# Altium footprint library Mounting_Wuerth.PcbLib: 191 footprints (part 11 of 12)
Each footprint in its own frame and in the unit in brackets; x right, y up, seen from the top. Pads: shape width x height; smd on the part's side, far side on the other; paste and mask are expansions set on the pad; w line width, h text height; cw(c..) or ccw(c..) is an arc to the next point about the centre after c.
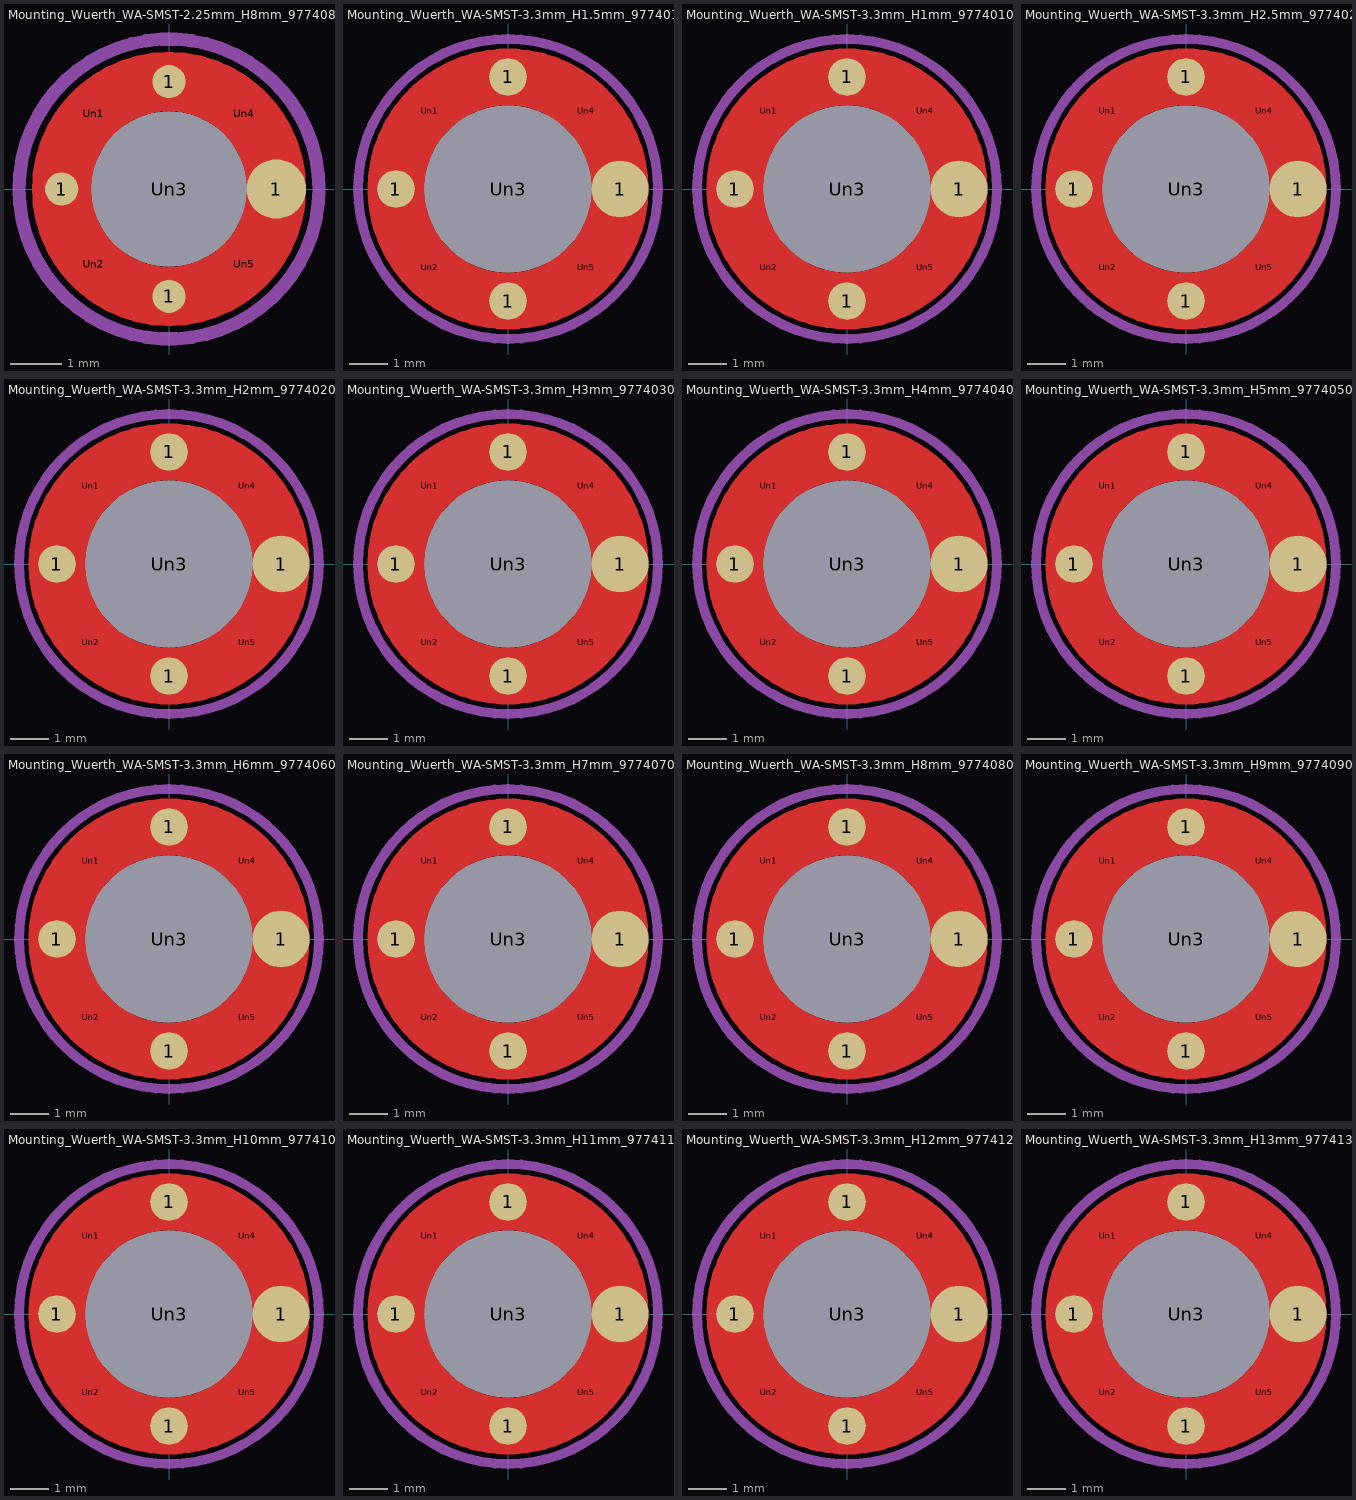
[diagram p10: the footprints below, top view; thin cyan lines are the x and y axes]

## Mounting_Wuerth_WA-SMST-2.25mm_H8mm_9774080943 [mm]
pads (9):
  round 0.642 smd: 1(-2.075,0) 1(0,-2.075) 1(0,2.075)
  round 1.15 smd: 1(2.075,0)
  round 0.505 on Top Paste: Un1(-1.453,1.453) Un2(-1.453,-1.453) Un4(1.453,1.453) Un5(1.453,-1.453)
  round 3 hole 3: Un3(0,0)
F.Cu:
  circle w1.15: c0,0 r2.075
F.Paste:
  lines w0.2: -2.427,-0.4 -1.601,-0.4 ; -2.427,0.4 -1.601,0.4 ; -0.4,-2.427 -0.4,-1.601 ; -0.4,1.601 -0.4,2.427 ; 0.4,-2.427 0.4,-1.601 ; 0.4,1.601 0.4,2.427 ; 1.601,-0.4 2.427,-0.4 ; 1.601,0.4 2.427,0.4
F.Mask:
  circle w1.15: c0,0 r2.075
Top Assembly:
  circle w0.254: c0,0 r2.175
  text "'.Designator'" at -4.047,-0.84 h1
Top Courtyard:
  circle w0.254: c0,0 r2.9
Top Designator:
  text ".Designator" at -7.768,-0.508 h1.52
3D body "Mounting_Wuerth_WA-SMST-2.25mm_H8mm_9774080943.step": height 8, standoff -1.4, extent -2.175,-2.172 2.175,2.172

## Mounting_Wuerth_WA-SMST-3.3mm_H1.5mm_9774015960 [mm]
pads (9):
  round 0.992 smd: 1(-2.95,0) 1(0,-2.95) 1(0,2.95)
  round 1.5 smd: 1(2.95,0)
  round 0.55 on Top Paste: Un1(-2.058,2.058) Un2(-2.058,-2.058) Un4(2.058,2.058) Un5(2.058,-2.058)
  round 4.4 hole 4.4: Un3(0,0)
F.Cu:
  circle w1.5: c0,0 r2.95
F.Paste:
  lines w0.2: -3.342,-0.35 -2.435,-0.35 ; -3.342,0.35 -2.435,0.35 ; -0.35,-3.342 -0.35,-2.435 ; -0.35,2.435 -0.35,3.342 ; 0.35,-3.342 0.35,-2.435 ; 0.35,2.435 0.35,3.342 ; 2.435,-0.35 3.342,-0.35 ; 2.435,0.35 3.342,0.35
F.Mask:
  circle w1.5: c0,0 r2.95
Top Assembly:
  circle w0.254: c0,0 r3
  text "'.Designator'" at -4.047,-0.84 h1
Top Courtyard:
  circle w0.254: c0,0 r3.95
Top Designator:
  text ".Designator" at -7.677,-0.508 h1.52
3D body "Mounting_Wuerth_WA-SMST-3.3mm_H1.5mm_9774015960.step": height 1.5, standoff -1.4, extent -3,-3 3,3

## Mounting_Wuerth_WA-SMST-3.3mm_H1mm_9774010960 [mm]
pads (9):
  round 0.992 smd: 1(-2.95,0) 1(0,-2.95) 1(0,2.95)
  round 1.5 smd: 1(2.95,0)
  round 0.55 on Top Paste: Un1(-2.058,2.058) Un2(-2.058,-2.058) Un4(2.058,2.058) Un5(2.058,-2.058)
  round 4.4 hole 4.4: Un3(0,0)
F.Cu:
  circle w1.5: c0,0 r2.95
F.Paste:
  lines w0.2: -3.342,-0.35 -2.435,-0.35 ; -3.342,0.35 -2.435,0.35 ; -0.35,-3.342 -0.35,-2.435 ; -0.35,2.435 -0.35,3.342 ; 0.35,-3.342 0.35,-2.435 ; 0.35,2.435 0.35,3.342 ; 2.435,-0.35 3.342,-0.35 ; 2.435,0.35 3.342,0.35
F.Mask:
  circle w1.5: c0,0 r2.95
Top Assembly:
  circle w0.254: c0,0 r3
  text "'.Designator'" at -4.047,-0.84 h1
Top Courtyard:
  circle w0.254: c0,0 r3.95
Top Designator:
  text ".Designator" at -7.677,-0.508 h1.52
3D body "Mounting_Wuerth_WA-SMST-3.3mm_H1mm_9774010960.step": height 1, standoff -1.4, extent -3,-3 3,3

## Mounting_Wuerth_WA-SMST-3.3mm_H2.5mm_9774025960 [mm]
pads (9):
  round 0.992 smd: 1(-2.95,0) 1(0,-2.95) 1(0,2.95)
  round 1.5 smd: 1(2.95,0)
  round 0.55 on Top Paste: Un1(-2.058,2.058) Un2(-2.058,-2.058) Un4(2.058,2.058) Un5(2.058,-2.058)
  round 4.4 hole 4.4: Un3(0,0)
F.Cu:
  circle w1.5: c0,0 r2.95
F.Paste:
  lines w0.2: -3.342,-0.35 -2.435,-0.35 ; -3.342,0.35 -2.435,0.35 ; -0.35,-3.342 -0.35,-2.435 ; -0.35,2.435 -0.35,3.342 ; 0.35,-3.342 0.35,-2.435 ; 0.35,2.435 0.35,3.342 ; 2.435,-0.35 3.342,-0.35 ; 2.435,0.35 3.342,0.35
F.Mask:
  circle w1.5: c0,0 r2.95
Top Assembly:
  circle w0.254: c0,0 r3
  text "'.Designator'" at -4.047,-0.84 h1
Top Courtyard:
  circle w0.254: c0,0 r3.95
Top Designator:
  text ".Designator" at -7.677,-0.508 h1.52
3D body "Mounting_Wuerth_WA-SMST-3.3mm_H2.5mm_9774025960.step": height 2.5, standoff -1.4, extent -3,-3 3,3

## Mounting_Wuerth_WA-SMST-3.3mm_H2mm_9774020960 [mm]
pads (9):
  round 0.992 smd: 1(-2.95,0) 1(0,-2.95) 1(0,2.95)
  round 1.5 smd: 1(2.95,0)
  round 0.55 on Top Paste: Un1(-2.058,2.058) Un2(-2.058,-2.058) Un4(2.058,2.058) Un5(2.058,-2.058)
  round 4.4 hole 4.4: Un3(0,0)
F.Cu:
  circle w1.5: c0,0 r2.95
F.Paste:
  lines w0.2: -3.342,-0.35 -2.435,-0.35 ; -3.342,0.35 -2.435,0.35 ; -0.35,-3.342 -0.35,-2.435 ; -0.35,2.435 -0.35,3.342 ; 0.35,-3.342 0.35,-2.435 ; 0.35,2.435 0.35,3.342 ; 2.435,-0.35 3.342,-0.35 ; 2.435,0.35 3.342,0.35
F.Mask:
  circle w1.5: c0,0 r2.95
Top Assembly:
  circle w0.254: c0,0 r3
  text "'.Designator'" at -4.047,-0.84 h1
Top Courtyard:
  circle w0.254: c0,0 r3.95
Top Designator:
  text ".Designator" at -7.677,-0.508 h1.52
3D body "Mounting_Wuerth_WA-SMST-3.3mm_H2mm_9774020960.step": height 2, standoff -1.4, extent -3,-3 3,3

## Mounting_Wuerth_WA-SMST-3.3mm_H3mm_9774030960 [mm]
pads (9):
  round 0.992 smd: 1(-2.95,0) 1(0,-2.95) 1(0,2.95)
  round 1.5 smd: 1(2.95,0)
  round 0.55 on Top Paste: Un1(-2.058,2.058) Un2(-2.058,-2.058) Un4(2.058,2.058) Un5(2.058,-2.058)
  round 4.4 hole 4.4: Un3(0,0)
F.Cu:
  circle w1.5: c0,0 r2.95
F.Paste:
  lines w0.2: -3.342,-0.35 -2.435,-0.35 ; -3.342,0.35 -2.435,0.35 ; -0.35,-3.342 -0.35,-2.435 ; -0.35,2.435 -0.35,3.342 ; 0.35,-3.342 0.35,-2.435 ; 0.35,2.435 0.35,3.342 ; 2.435,-0.35 3.342,-0.35 ; 2.435,0.35 3.342,0.35
F.Mask:
  circle w1.5: c0,0 r2.95
Top Assembly:
  circle w0.254: c0,0 r3
  text "'.Designator'" at -4.047,-0.84 h1
Top Courtyard:
  circle w0.254: c0,0 r3.95
Top Designator:
  text ".Designator" at -7.677,-0.508 h1.52
3D body "Mounting_Wuerth_WA-SMSSR-3.3mm_H3mm_SnapRivet_9776030960.step": height 3, standoff -1.4, extent -3,-3 3,3

## Mounting_Wuerth_WA-SMST-3.3mm_H4mm_9774040960 [mm]
pads (9):
  round 0.992 smd: 1(-2.95,0) 1(0,-2.95) 1(0,2.95)
  round 1.5 smd: 1(2.95,0)
  round 0.55 on Top Paste: Un1(-2.058,2.058) Un2(-2.058,-2.058) Un4(2.058,2.058) Un5(2.058,-2.058)
  round 4.4 hole 4.4: Un3(0,0)
F.Cu:
  circle w1.5: c0,0 r2.95
F.Paste:
  lines w0.2: -3.342,-0.35 -2.435,-0.35 ; -3.342,0.35 -2.435,0.35 ; -0.35,-3.342 -0.35,-2.435 ; -0.35,2.435 -0.35,3.342 ; 0.35,-3.342 0.35,-2.435 ; 0.35,2.435 0.35,3.342 ; 2.435,-0.35 3.342,-0.35 ; 2.435,0.35 3.342,0.35
F.Mask:
  circle w1.5: c0,0 r2.95
Top Assembly:
  circle w0.254: c0,0 r3
  text "'.Designator'" at -4.047,-0.84 h1
Top Courtyard:
  circle w0.254: c0,0 r3.95
Top Designator:
  text ".Designator" at -7.677,-0.508 h1.52
3D body "Mounting_Wuerth_WA-SMST-3.3mm_H4mm_9774040960.step": height 4, standoff -1.4, extent -3,-3 3,3

## Mounting_Wuerth_WA-SMST-3.3mm_H5mm_9774050960 [mm]
pads (9):
  round 0.992 smd: 1(-2.95,0) 1(0,-2.95) 1(0,2.95)
  round 1.5 smd: 1(2.95,0)
  round 0.55 on Top Paste: Un1(-2.058,2.058) Un2(-2.058,-2.058) Un4(2.058,2.058) Un5(2.058,-2.058)
  round 4.4 hole 4.4: Un3(0,0)
F.Cu:
  circle w1.5: c0,0 r2.95
F.Paste:
  lines w0.2: -3.342,-0.35 -2.435,-0.35 ; -3.342,0.35 -2.435,0.35 ; -0.35,-3.342 -0.35,-2.435 ; -0.35,2.435 -0.35,3.342 ; 0.35,-3.342 0.35,-2.435 ; 0.35,2.435 0.35,3.342 ; 2.435,-0.35 3.342,-0.35 ; 2.435,0.35 3.342,0.35
F.Mask:
  circle w1.5: c0,0 r2.95
Top Assembly:
  circle w0.254: c0,0 r3
  text "'.Designator'" at -4.047,-0.84 h1
Top Courtyard:
  circle w0.254: c0,0 r3.95
Top Designator:
  text ".Designator" at -7.677,-0.508 h1.52
3D body "Mounting_Wuerth_WA-SMST-3.3mm_H5mm_9774050960.step": height 5, standoff -1.4, extent -3,-3 3,3

## Mounting_Wuerth_WA-SMST-3.3mm_H6mm_9774060960 [mm]
pads (9):
  round 0.992 smd: 1(-2.95,0) 1(0,-2.95) 1(0,2.95)
  round 1.5 smd: 1(2.95,0)
  round 0.55 on Top Paste: Un1(-2.058,2.058) Un2(-2.058,-2.058) Un4(2.058,2.058) Un5(2.058,-2.058)
  round 4.4 hole 4.4: Un3(0,0)
F.Cu:
  circle w1.5: c0,0 r2.95
F.Paste:
  lines w0.2: -3.342,-0.35 -2.435,-0.35 ; -3.342,0.35 -2.435,0.35 ; -0.35,-3.342 -0.35,-2.435 ; -0.35,2.435 -0.35,3.342 ; 0.35,-3.342 0.35,-2.435 ; 0.35,2.435 0.35,3.342 ; 2.435,-0.35 3.342,-0.35 ; 2.435,0.35 3.342,0.35
F.Mask:
  circle w1.5: c0,0 r2.95
Top Assembly:
  circle w0.254: c0,0 r3
  text "'.Designator'" at -4.047,-0.84 h1
Top Courtyard:
  circle w0.254: c0,0 r3.95
Top Designator:
  text ".Designator" at -7.677,-0.508 h1.52
3D body "Mounting_Wuerth_WA-SMST-3.3mm_H6mm_9774060960.step": height 6, standoff -1.4, extent -3,-3 3,3

## Mounting_Wuerth_WA-SMST-3.3mm_H7mm_9774070960 [mm]
pads (9):
  round 0.992 smd: 1(-2.95,0) 1(0,-2.95) 1(0,2.95)
  round 1.5 smd: 1(2.95,0)
  round 0.55 on Top Paste: Un1(-2.058,2.058) Un2(-2.058,-2.058) Un4(2.058,2.058) Un5(2.058,-2.058)
  round 4.4 hole 4.4: Un3(0,0)
F.Cu:
  circle w1.5: c0,0 r2.95
F.Paste:
  lines w0.2: -3.342,-0.35 -2.435,-0.35 ; -3.342,0.35 -2.435,0.35 ; -0.35,-3.342 -0.35,-2.435 ; -0.35,2.435 -0.35,3.342 ; 0.35,-3.342 0.35,-2.435 ; 0.35,2.435 0.35,3.342 ; 2.435,-0.35 3.342,-0.35 ; 2.435,0.35 3.342,0.35
F.Mask:
  circle w1.5: c0,0 r2.95
Top Assembly:
  circle w0.254: c0,0 r3
  text "'.Designator'" at -4.047,-0.84 h1
Top Courtyard:
  circle w0.254: c0,0 r3.95
Top Designator:
  text ".Designator" at -7.677,-0.508 h1.52
3D body "Mounting_Wuerth_WA-SMST-3.3mm_H7mm_9774070960.step": height 7, standoff -1.4, extent -3,-3 3,3

## Mounting_Wuerth_WA-SMST-3.3mm_H8mm_9774080960 [mm]
pads (9):
  round 0.992 smd: 1(-2.95,0) 1(0,-2.95) 1(0,2.95)
  round 1.5 smd: 1(2.95,0)
  round 0.55 on Top Paste: Un1(-2.058,2.058) Un2(-2.058,-2.058) Un4(2.058,2.058) Un5(2.058,-2.058)
  round 4.4 hole 4.4: Un3(0,0)
F.Cu:
  circle w1.5: c0,0 r2.95
F.Paste:
  lines w0.2: -3.342,-0.35 -2.435,-0.35 ; -3.342,0.35 -2.435,0.35 ; -0.35,-3.342 -0.35,-2.435 ; -0.35,2.435 -0.35,3.342 ; 0.35,-3.342 0.35,-2.435 ; 0.35,2.435 0.35,3.342 ; 2.435,-0.35 3.342,-0.35 ; 2.435,0.35 3.342,0.35
F.Mask:
  circle w1.5: c0,0 r2.95
Top Assembly:
  circle w0.254: c0,0 r3
  text "'.Designator'" at -4.047,-0.84 h1
Top Courtyard:
  circle w0.254: c0,0 r3.95
Top Designator:
  text ".Designator" at -7.677,-0.508 h1.52
3D body "Mounting_Wuerth_WA-SMST-3.3mm_H8mm_9774080960.step": height 8, standoff -1.4, extent -3,-3 3,3

## Mounting_Wuerth_WA-SMST-3.3mm_H9mm_9774090960 [mm]
pads (9):
  round 0.992 smd: 1(-2.95,0) 1(0,-2.95) 1(0,2.95)
  round 1.5 smd: 1(2.95,0)
  round 0.55 on Top Paste: Un1(-2.058,2.058) Un2(-2.058,-2.058) Un4(2.058,2.058) Un5(2.058,-2.058)
  round 4.4 hole 4.4: Un3(0,0)
F.Cu:
  circle w1.5: c0,0 r2.95
F.Paste:
  lines w0.2: -3.342,-0.35 -2.435,-0.35 ; -3.342,0.35 -2.435,0.35 ; -0.35,-3.342 -0.35,-2.435 ; -0.35,2.435 -0.35,3.342 ; 0.35,-3.342 0.35,-2.435 ; 0.35,2.435 0.35,3.342 ; 2.435,-0.35 3.342,-0.35 ; 2.435,0.35 3.342,0.35
F.Mask:
  circle w1.5: c0,0 r2.95
Top Assembly:
  circle w0.254: c0,0 r3
  text "'.Designator'" at -4.047,-0.84 h1
Top Courtyard:
  circle w0.254: c0,0 r3.95
Top Designator:
  text ".Designator" at -7.677,-0.508 h1.52
3D body "Mounting_Wuerth_WA-SMST-3.3mm_H9mm_9774090960.step": height 9, standoff -1.4, extent -3,-3 3,3

## Mounting_Wuerth_WA-SMST-3.3mm_H10mm_9774100960 [mm]
pads (9):
  round 0.992 smd: 1(-2.95,0) 1(0,-2.95) 1(0,2.95)
  round 1.5 smd: 1(2.95,0)
  round 0.55 on Top Paste: Un1(-2.058,2.058) Un2(-2.058,-2.058) Un4(2.058,2.058) Un5(2.058,-2.058)
  round 4.4 hole 4.4: Un3(0,0)
F.Cu:
  circle w1.5: c0,0 r2.95
F.Paste:
  lines w0.2: -3.342,-0.35 -2.435,-0.35 ; -3.342,0.35 -2.435,0.35 ; -0.35,-3.342 -0.35,-2.435 ; -0.35,2.435 -0.35,3.342 ; 0.35,-3.342 0.35,-2.435 ; 0.35,2.435 0.35,3.342 ; 2.435,-0.35 3.342,-0.35 ; 2.435,0.35 3.342,0.35
F.Mask:
  circle w1.5: c0,0 r2.95
Top Assembly:
  circle w0.254: c0,0 r3
  text "'.Designator'" at -4.047,-0.84 h1
Top Courtyard:
  circle w0.254: c0,0 r3.95
Top Designator:
  text ".Designator" at -7.677,-0.508 h1.52
3D body "Mounting_Wuerth_WA-SMST-3.3mm_H10mm_9774100960.step": height 10, standoff -1.4, extent -3,-3 3,3

## Mounting_Wuerth_WA-SMST-3.3mm_H11mm_9774110960 [mm]
pads (9):
  round 0.992 smd: 1(-2.95,0) 1(0,-2.95) 1(0,2.95)
  round 1.5 smd: 1(2.95,0)
  round 0.55 on Top Paste: Un1(-2.058,2.058) Un2(-2.058,-2.058) Un4(2.058,2.058) Un5(2.058,-2.058)
  round 4.4 hole 4.4: Un3(0,0)
F.Cu:
  circle w1.5: c0,0 r2.95
F.Paste:
  lines w0.2: -3.342,-0.35 -2.435,-0.35 ; -3.342,0.35 -2.435,0.35 ; -0.35,-3.342 -0.35,-2.435 ; -0.35,2.435 -0.35,3.342 ; 0.35,-3.342 0.35,-2.435 ; 0.35,2.435 0.35,3.342 ; 2.435,-0.35 3.342,-0.35 ; 2.435,0.35 3.342,0.35
F.Mask:
  circle w1.5: c0,0 r2.95
Top Assembly:
  circle w0.254: c0,0 r3
  text "'.Designator'" at -4.047,-0.84 h1
Top Courtyard:
  circle w0.254: c0,0 r3.95
Top Designator:
  text ".Designator" at -7.677,-0.508 h1.52
3D body "Mounting_Wuerth_WA-SMST-3.3mm_H11mm_9774110960.step": height 11, standoff -1.4, extent -3,-3 3,3

## Mounting_Wuerth_WA-SMST-3.3mm_H12mm_9774120960 [mm]
pads (9):
  round 0.992 smd: 1(-2.95,0) 1(0,-2.95) 1(0,2.95)
  round 1.5 smd: 1(2.95,0)
  round 0.55 on Top Paste: Un1(-2.058,2.058) Un2(-2.058,-2.058) Un4(2.058,2.058) Un5(2.058,-2.058)
  round 4.4 hole 4.4: Un3(0,0)
F.Cu:
  circle w1.5: c0,0 r2.95
F.Paste:
  lines w0.2: -3.342,-0.35 -2.435,-0.35 ; -3.342,0.35 -2.435,0.35 ; -0.35,-3.342 -0.35,-2.435 ; -0.35,2.435 -0.35,3.342 ; 0.35,-3.342 0.35,-2.435 ; 0.35,2.435 0.35,3.342 ; 2.435,-0.35 3.342,-0.35 ; 2.435,0.35 3.342,0.35
F.Mask:
  circle w1.5: c0,0 r2.95
Top Assembly:
  circle w0.254: c0,0 r3
  text "'.Designator'" at -4.047,-0.84 h1
Top Courtyard:
  circle w0.254: c0,0 r3.95
Top Designator:
  text ".Designator" at -7.677,-0.508 h1.52
3D body "Mounting_Wuerth_WA-SMST-3.3mm_H12mm_9774120960.step": height 12, standoff -1.4, extent -3,-3 3,3

## Mounting_Wuerth_WA-SMST-3.3mm_H13mm_9774130960 [mm]
pads (9):
  round 0.992 smd: 1(-2.95,0) 1(0,-2.95) 1(0,2.95)
  round 1.5 smd: 1(2.95,0)
  round 0.55 on Top Paste: Un1(-2.058,2.058) Un2(-2.058,-2.058) Un4(2.058,2.058) Un5(2.058,-2.058)
  round 4.4 hole 4.4: Un3(0,0)
F.Cu:
  circle w1.5: c0,0 r2.95
F.Paste:
  lines w0.2: -3.342,-0.35 -2.435,-0.35 ; -3.342,0.35 -2.435,0.35 ; -0.35,-3.342 -0.35,-2.435 ; -0.35,2.435 -0.35,3.342 ; 0.35,-3.342 0.35,-2.435 ; 0.35,2.435 0.35,3.342 ; 2.435,-0.35 3.342,-0.35 ; 2.435,0.35 3.342,0.35
F.Mask:
  circle w1.5: c0,0 r2.95
Top Assembly:
  circle w0.254: c0,0 r3
  text "'.Designator'" at -4.047,-0.84 h1
Top Courtyard:
  circle w0.254: c0,0 r3.95
Top Designator:
  text ".Designator" at -7.677,-0.508 h1.52
3D body "Mounting_Wuerth_WA-SMST-3.3mm_H13mm_9774130960.step": height 13, standoff -1.4, extent -3,-3 3,3